# Altium footprint library ATMEGA328-AU.PcbLib: 3 footprints
Each footprint in its own frame and in the unit in brackets; x right, y up, seen from the top. Pads: shape width x height; smd on the part's side, far side on the other; paste and mask are expansions set on the pad; w line width, h text height; cw(c..) or ccw(c..) is an arc to the next point about the centre after c.
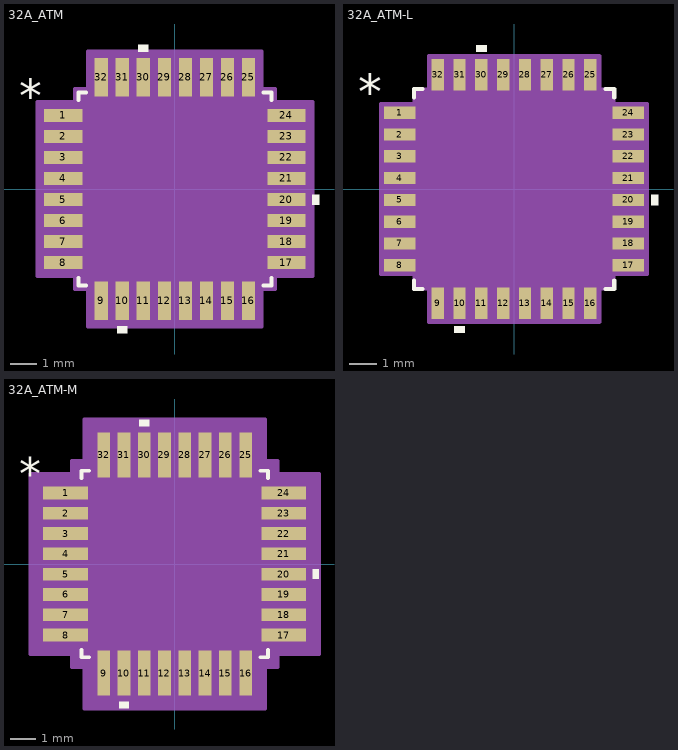
[diagram p0: the footprints below, top view; thin cyan lines are the x and y axes]

## 32A_ATM [mm]
pads (32):
  rect 1.461x0.501 smd paste+0 mask+0: 1(-4.25,2.8) 2(-4.25,2) 3(-4.25,1.2) 4(-4.25,0.4) 5(-4.25,-0.4) 6(-4.25,-1.2) 7(-4.25,-2) 8(-4.25,-2.8) 17(4.25,-2.8) 18(4.25,-2) 19(4.25,-1.2) 20(4.25,-0.4) 21(4.25,0.4) 22(4.25,1.2) 23(4.25,2) 24(4.25,2.8)
  rect 0.501x1.461 smd paste+0 mask+0: 9(-2.8,-4.25) 10(-2,-4.25) 11(-1.2,-4.25) 12(-0.4,-4.25) 13(0.4,-4.25) 14(1.2,-4.25) 15(2,-4.25) 16(2.8,-4.25) 25(2.8,4.25) 26(2,4.25) 27(1.2,4.25) 28(0.4,4.25) 29(-0.4,4.25) 30(-1.2,4.25) 31(-2,4.25) 32(-2.8,4.25)
Top Overlay:
  region: -1.81,-5.235 -2.191,-5.235 -2.191,-5.489 -1.81,-5.489
  region: 5.235,-0.209 5.489,-0.209 5.489,-0.59 5.235,-0.59
  region: -1.01,5.235 -1.391,5.235 -1.391,5.489 -1.01,5.489
  lines w0.152: -3.677,-3.383 -3.677,-3.677 -3.383,-3.677 ; -3.677,3.383 -3.677,3.677 -3.383,3.677 ; 3.383,-3.677 3.677,-3.677 3.677,-3.383 ; 3.383,3.677 3.677,3.677 3.677,3.383
  text "*" at -5.933,2.946 h1.27
Mechanical 13:
  lines w0.025: -3.55,2.28 -2.28,3.55 ; -3.55,-3.55 3.55,-3.55 ; -3.55,-3.55 -3.55,3.55 ; -3.55,-3.55 -3.55,-3.55 ; -3.55,3.55 3.55,3.55 ; -3.55,3.55 -3.55,3.55 ; 3.55,-3.55 3.55,-3.55 ; 3.55,-3.55 3.55,3.55 ; 3.55,3.55 3.55,3.55 ; -4.625,-3.025 -4.625,-2.575 -3.55,-2.575 -3.55,-3.025 -4.625,-3.025 ; -4.625,-2.225 -4.625,-1.775 -3.55,-1.775 -3.55,-2.225 -4.625,-2.225 ; -4.625,-1.425 -4.625,-0.975 -3.55,-0.975 -3.55,-1.425 -4.625,-1.425 ; -4.625,-0.625 -4.625,-0.175 -3.55,-0.175 -3.55,-0.625 -4.625,-0.625 ; -4.625,0.175 -4.625,0.625 -3.55,0.625 -3.55,0.175 -4.625,0.175 ; -4.625,0.975 -4.625,1.425 -3.55,1.425 -3.55,0.975 -4.625,0.975 ; -4.625,1.775 -4.625,2.225 -3.55,2.225 -3.55,1.775 -4.625,1.775 ; -4.625,2.575 -4.625,3.025 -3.55,3.025 -3.55,2.575 -4.625,2.575 ; -3.025,-4.625 -3.025,-3.55 -2.575,-3.55 -2.575,-4.625 -3.025,-4.625 ; -3.025,3.55 -2.575,3.55 -2.575,4.625 -3.025,4.625 -3.025,3.55 ; -2.225,-4.625 -2.225,-3.55 -1.775,-3.55 -1.775,-4.625 -2.225,-4.625 ; -2.225,3.55 -1.775,3.55 -1.775,4.625 -2.225,4.625 -2.225,3.55 ; -1.425,-4.625 -1.425,-3.55 -0.975,-3.55 -0.975,-4.625 -1.425,-4.625 ; -1.425,3.55 -0.975,3.55 -0.975,4.625 -1.425,4.625 -1.425,3.55 ; -0.625,-4.625 -0.625,-3.55 -0.175,-3.55 -0.175,-4.625 -0.625,-4.625 ; -0.625,3.55 -0.175,3.55 -0.175,4.625 -0.625,4.625 -0.625,3.55 ; 0.175,-4.625 0.175,-3.55 0.625,-3.55 0.625,-4.625 0.175,-4.625 ; 0.175,3.55 0.625,3.55 0.625,4.625 0.175,4.625 0.175,3.55 ; 0.975,-4.625 0.975,-3.55 1.425,-3.55 1.425,-4.625 0.975,-4.625 ; 0.975,3.55 1.425,3.55 1.425,4.625 0.975,4.625 0.975,3.55 ; 1.775,-4.625 1.775,-3.55 2.225,-3.55 2.225,-4.625 1.775,-4.625 ; 1.775,3.55 2.225,3.55 2.225,4.625 1.775,4.625 1.775,3.55 ; 2.575,-4.625 2.575,-3.55 3.025,-3.55 3.025,-4.625 2.575,-4.625 ; 2.575,3.55 3.025,3.55 3.025,4.625 2.575,4.625 2.575,3.55 ; 3.55,-3.025 3.55,-2.575 4.625,-2.575 4.625,-3.025 3.55,-3.025 ; 3.55,-2.225 3.55,-1.775 4.625,-1.775 4.625,-2.225 3.55,-2.225 ; 3.55,-1.425 3.55,-0.975 4.625,-0.975 4.625,-1.425 3.55,-1.425 ; 3.55,-0.625 3.55,-0.175 4.625,-0.175 4.625,-0.625 3.55,-0.625 ; 3.55,0.175 3.55,0.625 4.625,0.625 4.625,0.175 3.55,0.175 ; 3.55,0.975 3.55,1.425 4.625,1.425 4.625,0.975 3.55,0.975 ; 3.55,1.775 3.55,2.225 4.625,2.225 4.625,1.775 3.55,1.775 ; 3.55,2.575 3.55,3.025 4.625,3.025 4.625,2.575 3.55,2.575
  text "*" at -3.487,2.565 h1.27
Mechanical 15:
  region: -3.304,-3.804 -3.804,-3.804 -3.804,-3.304 -5.235,-3.304 -5.235,3.304 -3.804,3.304 -3.804,3.804 -3.304,3.804 -3.304,5.235 3.304,5.235 3.304,3.804 3.804,3.804 3.804,3.304 5.235,3.304 5.235,-3.304 3.804,-3.304 3.804,-3.804 3.304,-3.804 3.304,-5.235 -3.304,-5.235
  lines w0.152: -5.235,-3.304 -3.804,-3.304 -3.804,-3.804 -3.304,-3.804 -3.304,-5.235 3.304,-5.235 3.304,-3.804 3.804,-3.804 3.804,-3.304 5.235,-3.304 5.235,3.304 3.804,3.304 3.804,3.804 3.304,3.804 3.304,5.235 -3.304,5.235 -3.304,3.804 -3.804,3.804 -3.804,3.304 -5.235,3.304 -5.235,-3.304
3D body "32A_ATM.step": height 1.2, standoff 0, extent -4.625,-4.625 4.625,4.625

## 32A_ATM-L [mm]
pads (32):
  rect 1.156x0.45 smd paste+0 mask+0: 1(-4.199,2.8) 2(-4.199,2) 3(-4.199,1.2) 4(-4.199,0.4) 5(-4.199,-0.4) 6(-4.199,-1.2) 7(-4.199,-2) 8(-4.199,-2.8) 17(4.199,-2.8) 18(4.199,-2) 19(4.199,-1.2) 20(4.199,-0.4) 21(4.199,0.4) 22(4.199,1.2) 23(4.199,2) 24(4.199,2.8)
  rect 0.45x1.156 smd paste+0 mask+0: 9(-2.8,-4.199) 10(-2,-4.199) 11(-1.2,-4.199) 12(-0.4,-4.199) 13(0.4,-4.199) 14(1.2,-4.199) 15(2,-4.199) 16(2.8,-4.199) 25(2.8,4.199) 26(2,4.199) 27(1.2,4.199) 28(0.4,4.199) 29(-0.4,4.199) 30(-1.2,4.199) 31(-2,4.199) 32(-2.8,4.199)
Top Overlay:
  region: -1.81,-5.031 -2.191,-5.031 -2.191,-5.285 -1.81,-5.285
  region: 5.031,-0.209 5.285,-0.209 5.285,-0.59 5.031,-0.59
  region: -1.01,5.031 -1.391,5.031 -1.391,5.285 -1.01,5.285
  lines w0.152: -3.677,-3.358 -3.677,-3.677 -3.358,-3.677 ; -3.677,3.358 -3.677,3.677 -3.358,3.677 ; 3.358,-3.677 3.677,-3.677 3.677,-3.358 ; 3.358,3.677 3.677,3.677 3.677,3.358
  text "*" at -5.73,2.946 h1.27
Mechanical 13:
  lines w0.025: -3.55,2.28 -2.28,3.55 ; -4.625,-3.025 -4.625,-2.575 -3.55,-2.575 -3.55,-3.025 -4.625,-3.025 ; -4.625,-2.225 -4.625,-1.775 -3.55,-1.775 -3.55,-2.225 -4.625,-2.225 ; -4.625,-1.425 -4.625,-0.975 -3.55,-0.975 -3.55,-1.425 -4.625,-1.425 ; -4.625,-0.625 -4.625,-0.175 -3.55,-0.175 -3.55,-0.625 -4.625,-0.625 ; -4.625,0.175 -4.625,0.625 -3.55,0.625 -3.55,0.175 -4.625,0.175 ; -4.625,0.975 -4.625,1.425 -3.55,1.425 -3.55,0.975 -4.625,0.975 ; -4.625,1.775 -4.625,2.225 -3.55,2.225 -3.55,1.775 -4.625,1.775 ; -4.625,2.575 -4.625,3.025 -3.55,3.025 -3.55,2.575 -4.625,2.575 ; -3.55,-3.55 -3.55,3.55 3.55,3.55 3.55,-3.55 -3.55,-3.55 ; -3.025,-4.625 -3.025,-3.55 -2.575,-3.55 -2.575,-4.625 -3.025,-4.625 ; -3.025,3.55 -2.575,3.55 -2.575,4.625 -3.025,4.625 -3.025,3.55 ; -2.225,-4.625 -2.225,-3.55 -1.775,-3.55 -1.775,-4.625 -2.225,-4.625 ; -2.225,3.55 -1.775,3.55 -1.775,4.625 -2.225,4.625 -2.225,3.55 ; -1.425,-4.625 -1.425,-3.55 -0.975,-3.55 -0.975,-4.625 -1.425,-4.625 ; -1.425,3.55 -0.975,3.55 -0.975,4.625 -1.425,4.625 -1.425,3.55 ; -0.625,-4.625 -0.625,-3.55 -0.175,-3.55 -0.175,-4.625 -0.625,-4.625 ; -0.625,3.55 -0.175,3.55 -0.175,4.625 -0.625,4.625 -0.625,3.55 ; 0.175,-4.625 0.175,-3.55 0.625,-3.55 0.625,-4.625 0.175,-4.625 ; 0.175,3.55 0.625,3.55 0.625,4.625 0.175,4.625 0.175,3.55 ; 0.975,-4.625 0.975,-3.55 1.425,-3.55 1.425,-4.625 0.975,-4.625 ; 0.975,3.55 1.425,3.55 1.425,4.625 0.975,4.625 0.975,3.55 ; 1.775,-4.625 1.775,-3.55 2.225,-3.55 2.225,-4.625 1.775,-4.625 ; 1.775,3.55 2.225,3.55 2.225,4.625 1.775,4.625 1.775,3.55 ; 2.575,-4.625 2.575,-3.55 3.025,-3.55 3.025,-4.625 2.575,-4.625 ; 2.575,3.55 3.025,3.55 3.025,4.625 2.575,4.625 2.575,3.55 ; 3.55,-3.025 3.55,-2.575 4.625,-2.575 4.625,-3.025 3.55,-3.025 ; 3.55,-2.225 3.55,-1.775 4.625,-1.775 4.625,-2.225 3.55,-2.225 ; 3.55,-1.425 3.55,-0.975 4.625,-0.975 4.625,-1.425 3.55,-1.425 ; 3.55,-0.625 3.55,-0.175 4.625,-0.175 4.625,-0.625 3.55,-0.625 ; 3.55,0.175 3.55,0.625 4.625,0.625 4.625,0.175 3.55,0.175 ; 3.55,0.975 3.55,1.425 4.625,1.425 4.625,0.975 3.55,0.975 ; 3.55,1.775 3.55,2.225 4.625,2.225 4.625,1.775 3.55,1.775 ; 3.55,2.575 3.55,3.025 4.625,3.025 4.625,2.575 3.55,2.575
  text "*" at -3.487,2.565 h1.27
Mechanical 15:
  region: -3.127,-3.652 -3.652,-3.652 -3.652,-3.127 -4.879,-3.127 -4.879,3.127 -3.652,3.127 -3.652,3.652 -3.127,3.652 -3.127,4.879 3.127,4.879 3.127,3.652 3.652,3.652 3.652,3.127 4.879,3.127 4.879,-3.127 3.652,-3.127 3.652,-3.652 3.127,-3.652 3.127,-4.879 -3.127,-4.879
  lines w0.152: -4.879,-3.127 -3.652,-3.127 -3.652,-3.652 -3.127,-3.652 -3.127,-4.879 3.127,-4.879 3.127,-3.652 3.652,-3.652 3.652,-3.127 4.879,-3.127 4.879,3.127 3.652,3.127 3.652,3.652 3.127,3.652 3.127,4.879 -3.127,4.879 -3.127,3.652 -3.652,3.652 -3.652,3.127 -4.879,3.127 -4.879,-3.127
3D body "32A_ATM.step": height 1.2, standoff 0, extent -4.625,-4.625 4.625,4.625

## 32A_ATM-M [mm]
pads (32):
  rect 1.766x0.501 smd paste+0 mask+0: 1(-4.301,2.8) 2(-4.301,2) 3(-4.301,1.2) 4(-4.301,0.4) 5(-4.301,-0.4) 6(-4.301,-1.2) 7(-4.301,-2) 8(-4.301,-2.8) 17(4.301,-2.8) 18(4.301,-2) 19(4.301,-1.2) 20(4.301,-0.4) 21(4.301,0.4) 22(4.301,1.2) 23(4.301,2) 24(4.301,2.8)
  rect 0.501x1.766 smd paste+0 mask+0: 9(-2.8,-4.301) 10(-2,-4.301) 11(-1.2,-4.301) 12(-0.4,-4.301) 13(0.4,-4.301) 14(1.2,-4.301) 15(2,-4.301) 16(2.8,-4.301) 25(2.8,4.301) 26(2,4.301) 27(1.2,4.301) 28(0.4,4.301) 29(-0.4,4.301) 30(-1.2,4.301) 31(-2,4.301) 32(-2.8,4.301)
Top Overlay:
  region: -1.81,-5.438 -2.191,-5.438 -2.191,-5.692 -1.81,-5.692
  region: 5.438,-0.209 5.692,-0.209 5.692,-0.59 5.438,-0.59
  region: -1.01,5.438 -1.391,5.438 -1.391,5.692 -1.01,5.692
  lines w0.152: -3.677,-3.383 -3.677,-3.677 -3.383,-3.677 ; -3.677,3.383 -3.677,3.677 -3.383,3.677 ; 3.383,-3.677 3.677,-3.677 3.677,-3.383 ; 3.383,3.677 3.677,3.677 3.677,3.383
  text "*" at -6.136,2.946 h1.27
Mechanical 13:
  lines w0.025: -3.55,2.28 -2.28,3.55 ; -4.625,-3.025 -4.625,-2.575 -3.55,-2.575 -3.55,-3.025 -4.625,-3.025 ; -4.625,-2.225 -4.625,-1.775 -3.55,-1.775 -3.55,-2.225 -4.625,-2.225 ; -4.625,-1.425 -4.625,-0.975 -3.55,-0.975 -3.55,-1.425 -4.625,-1.425 ; -4.625,-0.625 -4.625,-0.175 -3.55,-0.175 -3.55,-0.625 -4.625,-0.625 ; -4.625,0.175 -4.625,0.625 -3.55,0.625 -3.55,0.175 -4.625,0.175 ; -4.625,0.975 -4.625,1.425 -3.55,1.425 -3.55,0.975 -4.625,0.975 ; -4.625,1.775 -4.625,2.225 -3.55,2.225 -3.55,1.775 -4.625,1.775 ; -4.625,2.575 -4.625,3.025 -3.55,3.025 -3.55,2.575 -4.625,2.575 ; -3.55,-3.55 -3.55,3.55 3.55,3.55 3.55,-3.55 -3.55,-3.55 ; -3.025,-4.625 -3.025,-3.55 -2.575,-3.55 -2.575,-4.625 -3.025,-4.625 ; -3.025,3.55 -2.575,3.55 -2.575,4.625 -3.025,4.625 -3.025,3.55 ; -2.225,-4.625 -2.225,-3.55 -1.775,-3.55 -1.775,-4.625 -2.225,-4.625 ; -2.225,3.55 -1.775,3.55 -1.775,4.625 -2.225,4.625 -2.225,3.55 ; -1.425,-4.625 -1.425,-3.55 -0.975,-3.55 -0.975,-4.625 -1.425,-4.625 ; -1.425,3.55 -0.975,3.55 -0.975,4.625 -1.425,4.625 -1.425,3.55 ; -0.625,-4.625 -0.625,-3.55 -0.175,-3.55 -0.175,-4.625 -0.625,-4.625 ; -0.625,3.55 -0.175,3.55 -0.175,4.625 -0.625,4.625 -0.625,3.55 ; 0.175,-4.625 0.175,-3.55 0.625,-3.55 0.625,-4.625 0.175,-4.625 ; 0.175,3.55 0.625,3.55 0.625,4.625 0.175,4.625 0.175,3.55 ; 0.975,-4.625 0.975,-3.55 1.425,-3.55 1.425,-4.625 0.975,-4.625 ; 0.975,3.55 1.425,3.55 1.425,4.625 0.975,4.625 0.975,3.55 ; 1.775,-4.625 1.775,-3.55 2.225,-3.55 2.225,-4.625 1.775,-4.625 ; 1.775,3.55 2.225,3.55 2.225,4.625 1.775,4.625 1.775,3.55 ; 2.575,-4.625 2.575,-3.55 3.025,-3.55 3.025,-4.625 2.575,-4.625 ; 2.575,3.55 3.025,3.55 3.025,4.625 2.575,4.625 2.575,3.55 ; 3.55,-3.025 3.55,-2.575 4.625,-2.575 4.625,-3.025 3.55,-3.025 ; 3.55,-2.225 3.55,-1.775 4.625,-1.775 4.625,-2.225 3.55,-2.225 ; 3.55,-1.425 3.55,-0.975 4.625,-0.975 4.625,-1.425 3.55,-1.425 ; 3.55,-0.625 3.55,-0.175 4.625,-0.175 4.625,-0.625 3.55,-0.625 ; 3.55,0.175 3.55,0.625 4.625,0.625 4.625,0.175 3.55,0.175 ; 3.55,0.975 3.55,1.425 4.625,1.425 4.625,0.975 3.55,0.975 ; 3.55,1.775 3.55,2.225 4.625,2.225 4.625,1.775 3.55,1.775 ; 3.55,2.575 3.55,3.025 4.625,3.025 4.625,2.575 3.55,2.575
  text "*" at -3.487,2.565 h1.27
Mechanical 15:
  region: -3.558,-4.058 -4.058,-4.058 -4.058,-3.558 -5.692,-3.558 -5.692,3.558 -4.058,3.558 -4.058,4.058 -3.558,4.058 -3.558,5.692 3.558,5.692 3.558,4.058 4.058,4.058 4.058,3.558 5.692,3.558 5.692,-3.558 4.058,-3.558 4.058,-4.058 3.558,-4.058 3.558,-5.692 -3.558,-5.692
  lines w0.152: -5.692,-3.558 -4.058,-3.558 -4.058,-4.058 -3.558,-4.058 -3.558,-5.692 3.558,-5.692 3.558,-4.058 4.058,-4.058 4.058,-3.558 5.692,-3.558 5.692,3.558 4.058,3.558 4.058,4.058 3.558,4.058 3.558,5.692 -3.558,5.692 -3.558,4.058 -4.058,4.058 -4.058,3.558 -5.692,3.558 -5.692,-3.558
3D body "32A_ATM.step": height 1.2, standoff 0, extent -4.625,-4.625 4.625,4.625